# Altium footprint library TE0712.PcbLib: 1 footprints
Each footprint in its own frame and in the unit in brackets; x right, y up, seen from the top. Pads: shape width x height; smd on the part's side, far side on the other; paste and mask are expansions set on the pad; w line width, h text height; cw(c..) or ccw(c..) is an arc to the next point about the centre after c.
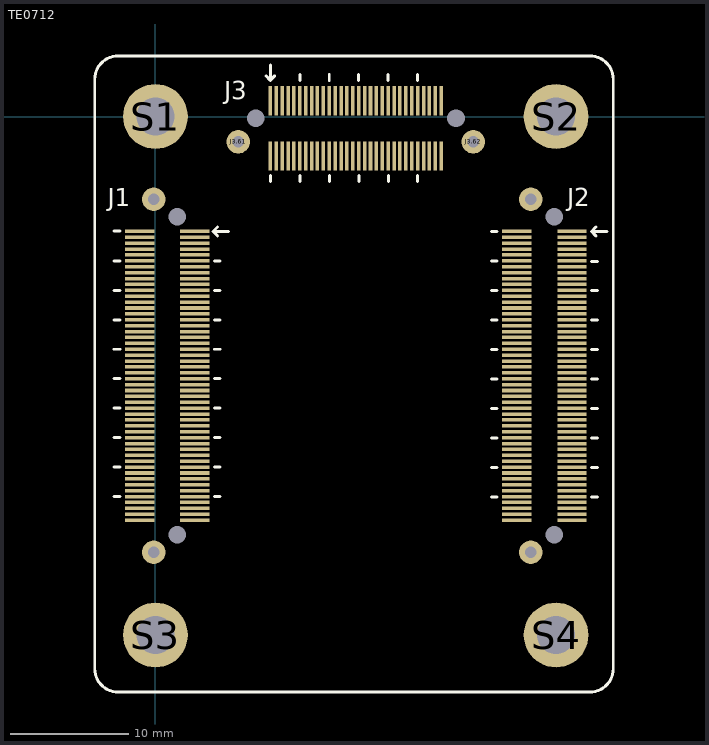
[diagram p0: the footprint, top view; thin cyan lines are the x and y axes]

## TE0712 [mm] "Micromodule Artix-7 XC7A100T-xx 4x5cm"
pads (276):
  rect 2.5x0.3 smd mask+0.05: J1.1(3.35,-9.75) J1.2(-1.35,-9.75) J1.3(3.35,-10.25) J1.4(-1.35,-10.25) J1.5(3.35,-10.75) J1.6(-1.35,-10.75) J1.7(3.35,-11.25) J1.8(-1.35,-11.25) J1.9(3.35,-11.75) J1.10(-1.35,-11.75) J1.11(3.35,-12.25) J1.12(-1.35,-12.25) J1.13(3.35,-12.75) J1.14(-1.35,-12.75) J1.15(3.35,-13.25) J1.16(-1.35,-13.25) J1.17(3.35,-13.75) J1.18(-1.35,-13.75) J1.19(3.35,-14.25) J1.20(-1.35,-14.25) J1.21(3.35,-14.75) J1.22(-1.35,-14.75) J1.23(3.35,-15.25) J1.24(-1.35,-15.25) J1.25(3.35,-15.75) J1.26(-1.35,-15.75) J1.27(3.35,-16.25) J1.28(-1.35,-16.25) J1.29(3.35,-16.75) J1.30(-1.35,-16.75) J1.31(3.35,-17.25) J1.32(-1.35,-17.25) J1.33(3.35,-17.75) J1.34(-1.35,-17.75) J1.35(3.35,-18.25) J1.36(-1.35,-18.25) J1.37(3.35,-18.75) J1.38(-1.35,-18.75) J1.39(3.35,-19.25) J1.40(-1.35,-19.25) J1.41(3.35,-19.75) J1.42(-1.35,-19.75) J1.43(3.35,-20.25) J1.44(-1.35,-20.25) J1.45(3.35,-20.75) J1.46(-1.35,-20.75) J1.47(3.35,-21.25) J1.48(-1.35,-21.25) J1.49(3.35,-21.75) J1.50(-1.35,-21.75) J1.51(3.35,-22.25) J1.52(-1.35,-22.25) J1.53(3.35,-22.75) J1.54(-1.35,-22.75) J1.55(3.35,-23.25) J1.56(-1.35,-23.25) J1.57(3.35,-23.75) J1.58(-1.35,-23.75) J1.59(3.35,-24.25) J1.60(-1.35,-24.25) J1.61(3.35,-24.75) J1.62(-1.35,-24.75) J1.63(3.35,-25.25) J1.64(-1.35,-25.25) J1.65(3.35,-25.75) J1.66(-1.35,-25.75) J1.67(3.35,-26.25) J1.68(-1.35,-26.25) J1.69(3.35,-26.75) J1.70(-1.35,-26.75) J1.71(3.35,-27.25) J1.72(-1.35,-27.25) J1.73(3.35,-27.75) J1.74(-1.35,-27.75) J1.75(3.35,-28.25) J1.76(-1.35,-28.25) J1.77(3.35,-28.75) J1.78(-1.35,-28.75) J1.79(3.35,-29.25) J1.80(-1.35,-29.25) J1.81(3.35,-29.75) J1.82(-1.35,-29.75) J1.83(3.35,-30.25) J1.84(-1.35,-30.25) J1.85(3.35,-30.75) J1.86(-1.35,-30.75) J1.87(3.35,-31.25) J1.88(-1.35,-31.25) J1.89(3.35,-31.75) J1.90(-1.35,-31.75) J1.91(3.35,-32.25) J1.92(-1.35,-32.25) J1.93(3.35,-32.75) J1.94(-1.35,-32.75) J1.95(3.35,-33.25) J1.96(-1.35,-33.25) J1.97(3.35,-33.75) J1.98(-1.35,-33.75) J1.99(3.35,-34.25) J1.100(-1.35,-34.25) J2.1(35.35,-9.75) J2.2(30.65,-9.75) J2.3(35.35,-10.25) J2.4(30.65,-10.25) J2.5(35.35,-10.75) J2.6(30.65,-10.75) J2.7(35.35,-11.25) J2.8(30.65,-11.25) J2.9(35.35,-11.75) J2.10(30.65,-11.75) J2.11(35.35,-12.25) J2.12(30.65,-12.25) J2.13(35.35,-12.75) J2.14(30.65,-12.75) J2.15(35.35,-13.25) J2.16(30.65,-13.25) J2.17(35.35,-13.75) J2.18(30.65,-13.75) J2.19(35.35,-14.25) J2.20(30.65,-14.25) J2.21(35.35,-14.75) J2.22(30.65,-14.75) J2.23(35.35,-15.25) J2.24(30.65,-15.25) J2.25(35.35,-15.75) J2.26(30.65,-15.75) J2.27(35.35,-16.25) J2.28(30.65,-16.25) J2.29(35.35,-16.75) J2.30(30.65,-16.75) J2.31(35.35,-17.25) J2.32(30.65,-17.25) J2.33(35.35,-17.75) J2.34(30.65,-17.75) J2.35(35.35,-18.25) J2.36(30.65,-18.25) J2.37(35.35,-18.75) J2.38(30.65,-18.75) J2.39(35.35,-19.25) J2.40(30.65,-19.25) J2.41(35.35,-19.75) J2.42(30.65,-19.75) J2.43(35.35,-20.25) J2.44(30.65,-20.25) J2.45(35.35,-20.75) J2.46(30.65,-20.75) J2.47(35.35,-21.25) J2.48(30.65,-21.25) J2.49(35.35,-21.75) J2.50(30.65,-21.75) J2.51(35.35,-22.25) J2.52(30.65,-22.25) J2.53(35.35,-22.75) J2.54(30.65,-22.75) J2.55(35.35,-23.25) J2.56(30.65,-23.25) J2.57(35.35,-23.75) J2.58(30.65,-23.75) J2.59(35.35,-24.25) J2.60(30.65,-24.25) J2.61(35.35,-24.75) J2.62(30.65,-24.75) J2.63(35.35,-25.25) J2.64(30.65,-25.25) J2.65(35.35,-25.75) J2.66(30.65,-25.75) J2.67(35.35,-26.25) J2.68(30.65,-26.25) J2.69(35.35,-26.75) J2.70(30.65,-26.75) J2.71(35.35,-27.25) J2.72(30.65,-27.25) J2.73(35.35,-27.75) J2.74(30.65,-27.75) J2.75(35.35,-28.25) J2.76(30.65,-28.25) J2.77(35.35,-28.75) J2.78(30.65,-28.75) J2.79(35.35,-29.25) J2.80(30.65,-29.25) J2.81(35.35,-29.75) J2.82(30.65,-29.75) J2.83(35.35,-30.25) J2.84(30.65,-30.25) J2.85(35.35,-30.75) J2.86(30.65,-30.75) J2.87(35.35,-31.25) J2.88(30.65,-31.25) J2.89(35.35,-31.75) J2.90(30.65,-31.75) J2.91(35.35,-32.25) J2.92(30.65,-32.25) J2.93(35.35,-32.75) J2.94(30.65,-32.75) J2.95(35.35,-33.25) J2.96(30.65,-33.25) J2.97(35.35,-33.75) J2.98(30.65,-33.75) J2.99(35.35,-34.25) J2.100(30.65,-34.25)
  round 2 hole 1 mask+0.075: J1.101(-0.15,-7.025) J1.102(-0.15,-36.975) J2.101(31.85,-7.025) J2.102(31.85,-36.975) J3.61(7.026,-2.15) J3.62(26.976,-2.15)
  round 0 hole 1.5 unplated: J1.103(1.85,-8.5) J1.104(1.85,-35.5) J2.103(33.85,-8.5) J2.104(33.85,-35.5) J3.63(8.501,-0.15) J3.64(25.501,-0.15)
  rect 0.3x2.5 smd mask+0.05: J3.1(9.751,1.35) J3.2(9.751,-3.35) J3.3(10.251,1.35) J3.4(10.251,-3.35) J3.5(10.751,1.35) J3.6(10.751,-3.35) J3.7(11.251,1.35) J3.8(11.251,-3.35) J3.9(11.751,1.35) J3.10(11.751,-3.35) J3.11(12.251,1.35) J3.12(12.251,-3.35) J3.13(12.751,1.35) J3.14(12.751,-3.35) J3.15(13.251,1.35) J3.16(13.251,-3.35) J3.17(13.751,1.35) J3.18(13.751,-3.35) J3.19(14.251,1.35) J3.20(14.251,-3.35) J3.21(14.751,1.35) J3.22(14.751,-3.35) J3.23(15.251,1.35) J3.24(15.251,-3.35) J3.25(15.751,1.35) J3.26(15.751,-3.35) J3.27(16.251,1.35) J3.28(16.251,-3.35) J3.29(16.751,1.35) J3.30(16.751,-3.35) J3.31(17.251,1.35) J3.32(17.251,-3.35) J3.33(17.751,1.35) J3.34(17.751,-3.35) J3.35(18.251,1.35) J3.36(18.251,-3.35) J3.37(18.751,1.35) J3.38(18.751,-3.35) J3.39(19.251,1.35) J3.40(19.251,-3.35) J3.41(19.751,1.35) J3.42(19.751,-3.35) J3.43(20.251,1.35) J3.44(20.251,-3.35) J3.45(20.751,1.35) J3.46(20.751,-3.35) J3.47(21.251,1.35) J3.48(21.251,-3.35) J3.49(21.751,1.35) J3.50(21.751,-3.35) J3.51(22.251,1.35) J3.52(22.251,-3.35) J3.53(22.751,1.35) J3.54(22.751,-3.35) J3.55(23.251,1.35) J3.56(23.251,-3.35) J3.57(23.751,1.35) J3.58(23.751,-3.35) J3.59(24.251,1.35) J3.60(24.251,-3.35)
  round 5.5 hole 3.2: S1(0,0) S2(34,0) S3(0,-44) S4(34,-44)
Top Overlay:
  lines w0.25: -5.15,-46.85 ccw(c-3.15,-46.85) -3.15,-48.85 36.85,-48.85 ccw(c36.85,-46.85) 38.85,-46.85 38.85,3.15 ccw(c36.85,3.15) 36.85,5.15 -3.15,5.15 ccw(c-3.15,3.15) -5.15,3.15 -5.15,-46.85
  lines w0.254: -3.5,-32.25 -3,-32.25 ; -3.5,-29.75 -3,-29.75 ; -3.5,-27.25 -3,-27.25 ; -3.5,-24.75 -3,-24.75 ; -3.5,-22.25 -3,-22.25 ; -3.5,-19.75 -3,-19.75 ; -3.5,-17.25 -3,-17.25 ; -3.5,-14.75 -3,-14.75 ; -3.5,-12.25 -3,-12.25 ; -3.5,-9.725 -3,-9.725 ; 5,-32.25 5.5,-32.25 ; 5,-29.75 5.5,-29.75 ; 5,-27.25 5.5,-27.25 ; 5,-24.75 5.5,-24.75 ; 5,-22.25 5.5,-22.25 ; 5,-19.75 5.5,-19.75 ; 5,-17.25 5.5,-17.25 ; 5,-14.75 5.5,-14.75 ; 5,-12.275 5.5,-12.275 ; 5.275,-10.125 4.9,-9.75 ; 5.275,-9.375 4.9,-9.75 ; 6.2,-9.75 4.9,-9.75 ; 9.375,3.45 9.75,3.075 ; 9.75,4.375 9.75,3.075 ; 9.775,-5.5 9.775,-5 ; 10.125,3.45 9.75,3.075 ; 12.25,3.075 12.25,3.575 ; 12.275,-5.5 12.275,-5 ; 14.75,3.075 14.75,3.575 ; 14.775,-5.5 14.775,-5 ; 17.225,3.075 17.225,3.575 ; 17.275,-5.5 17.275,-5 ; 19.725,3.075 19.725,3.575 ; 19.775,-5.5 19.775,-5 ; 22.225,3.075 22.225,3.575 ; 22.25,-5.5 22.25,-5 ; 28.5,-32.275 29,-32.275 ; 28.5,-29.775 29,-29.775 ; 28.5,-27.275 29,-27.275 ; 28.5,-24.775 29,-24.775 ; 28.5,-22.275 29,-22.275 ; 28.5,-19.775 29,-19.775 ; 28.5,-17.275 29,-17.275 ; 28.5,-14.775 29,-14.775 ; 28.5,-12.275 29,-12.275 ; 28.5,-9.75 29,-9.75 ; 37,-32.275 37.5,-32.275 ; 37,-29.775 37.5,-29.775 ; 37,-27.275 37.5,-27.275 ; 37,-24.775 37.5,-24.775 ; 37,-22.275 37.5,-22.275 ; 37,-19.775 37.5,-19.775 ; 37,-17.275 37.5,-17.275 ; 37,-14.775 37.5,-14.775 ; 37,-12.3 37.5,-12.3 ; 37.375,-10.125 37,-9.75 ; 37.375,-9.375 37,-9.75 ; 38.3,-9.75 37,-9.75 ; 4.9,-9.75 4.9,-9.75 ; 9.75,3.075 9.75,3.075 ; 37,-9.75 37,-9.75
  text "J3" at 5.825,1.45 h1.52
  text "J2" at 34.925,-7.625 h1.52
  text "J1" at -4.025,-7.625 h1.52